# Altium footprint library 研发中心PCB库文件.PcbLib: 333 footprints (part 13 of 21)
Each footprint in its own frame and in the unit in brackets; x right, y up, seen from the top. Pads: shape width x height; smd on the part's side, far side on the other; paste and mask are expansions set on the pad; w line width, h text height; cw(c..) or ccw(c..) is an arc to the next point about the centre after c.
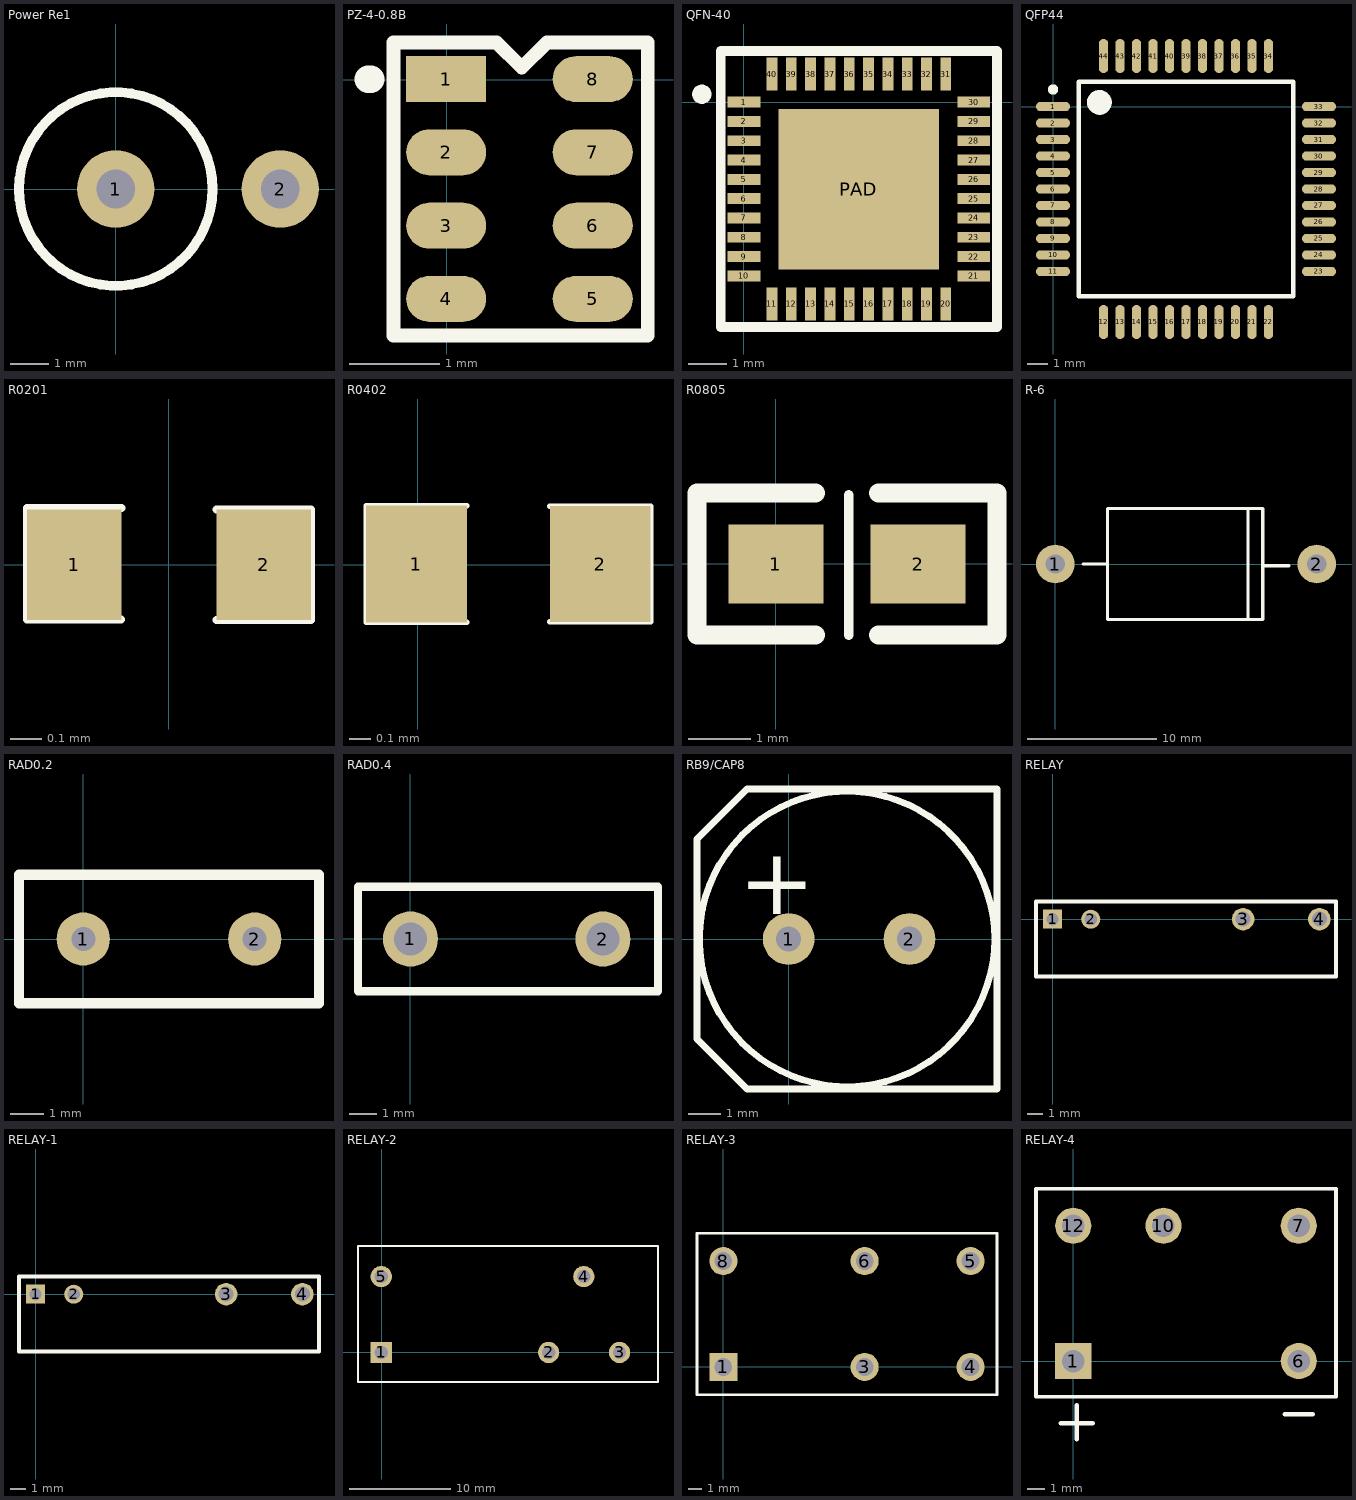
[diagram p12: the footprints below, top view; thin cyan lines are the x and y axes]

## Power Re1 [mil]
pads (2):
  round 80 hole 40: 1(0,0) 2(170,0)
Top Overlay:
  circle w10: c0,0 r100

## PZ-4-0.8B [mil]
pads (8):
  rect 35x20 smd: 1(-0.18,0.33)
  oval 35x20 smd: 2(-0.18,-31.67) 3(-0.18,-63.67) 4(-0.18,-95.67) 5(63.82,-95.67) 6(63.82,-63.67) 7(63.82,-31.67) 8(63.82,0.33)
Top Overlay:
  lines w6: -23.18,-111.67 87.82,-111.67 87.82,16.33 43.82,16.33 32.82,5.33 21.82,16.33 -23.18,16.33 -23.18,-111.67
  lines w12: -34.18,0.33 -33.18,0.33

## QFN-40 [mm]
pads (41):
  rect 0.85x0.28 smd: 1(0,0) 2(0,-0.5) 3(0,-1) 4(0,-1.5) 5(0,-2) 6(0,-2.5) 7(0,-3) 8(0,-3.5) 9(0,-4) 10(0,-4.5) 21(5.95,-4.5) 22(5.95,-4) 23(5.95,-3.5) 24(5.95,-3) 25(5.95,-2.5) 26(5.95,-2) 27(5.95,-1.5) 28(5.95,-1) 29(5.95,-0.5) 30(5.95,0)
  rect 0.28x0.85 smd: 11(0.725,-5.225) 12(1.225,-5.225) 13(1.725,-5.225) 14(2.225,-5.225) 15(2.725,-5.225) 16(3.225,-5.225) 17(3.725,-5.225) 18(4.225,-5.225) 19(4.725,-5.225) 20(5.225,-5.225) 31(5.225,0.725) 32(4.725,0.725) 33(4.225,0.725) 34(3.725,0.725) 35(3.225,0.725) 36(2.725,0.725) 37(2.225,0.725) 38(1.725,0.725) 39(1.225,0.725) 40(0.725,0.725)
  rect 4.15x4.15 smd: PAD(2.975,-2.255)
Top Overlay:
  circle w0.25: c-1.09,0.203 r0.125
  lines w0.254: -0.6,-5.825 -0.6,1.325 6.55,1.325 6.55,-5.825 -0.6,-5.825

## QFP44 [mm]
pads (44):
  oval 1.65x0.45 smd: 1(0,0) 2(0,-0.8) 3(0,-1.6) 4(0,-2.4) 5(0,-3.2) 6(0,-4) 7(0,-4.8) 8(0,-5.6) 9(0,-6.4) 10(0,-7.2) 11(0,-8) 23(12.9,-8) 24(12.9,-7.2) 25(12.9,-6.4) 26(12.9,-5.6) 27(12.9,-4.8) 28(12.9,-4) 29(12.9,-3.2) 30(12.9,-2.4) 31(12.9,-1.6) 32(12.9,-0.8) 33(12.9,0)
  oval 0.45x1.65 smd: 12(2.45,-10.45) 13(3.25,-10.45) 14(4.05,-10.45) 15(4.85,-10.45) 16(5.65,-10.45) 17(6.45,-10.45) 18(7.25,-10.45) 19(8.05,-10.45) 20(8.85,-10.45) 21(9.65,-10.45) 22(10.45,-10.45) 34(10.45,2.45) 35(9.65,2.45) 36(8.85,2.45) 37(8.05,2.45) 38(7.25,2.45) 39(6.45,2.45) 40(5.65,2.45) 41(4.85,2.45) 42(4.05,2.45) 43(3.25,2.45) 44(2.45,2.45)
Top Overlay:
  circle w0.6: c2.25,0.2 r0.3
  circle w0.25: c0,0.825 r0.125
  lines w0.2: 1.25,-9.2 11.65,-9.2 11.65,1.2 1.25,1.2 1.25,-9.2

## R0201 [mm]
pads (2):
  rect 0.3x0.35 smd: 1(-0.3,0) 2(0.3,0)
Top Overlay:
  lines w0.025: -0.152,-0.174 -0.45,-0.174 -0.45,0.179 -0.15,0.179 ; 0.15,-0.175 0.45,-0.175 0.45,0.175 0.15,0.175

## R0402 [mm]
pads (2):
  rect 0.48x0.555 smd: 1(-0.007,0.003)
  rect 0.48x0.55 smd: 2(0.868,0.003)
Top Overlay:
  lines w0.025: 0.232,-0.274 -0.247,-0.274 -0.247,0.281 0.232,0.281 ; 0.628,-0.272 1.108,-0.272 1.108,0.278 0.628,0.278

## R0805 [mil]
height 53.15
pads (2):
  rect 60x50 smd: 1(0.16,-0.14) 2(90.16,-0.14)
Top Overlay:
  lines w6: 46.16,-45.14 46.16,43.86
  lines w12: 25.16,-45.14 -49.84,-45.14 -49.84,44.86 25.16,44.86 ; 65.16,-45.14 140.16,-45.14 140.16,44.86 65.16,44.86

## R-6 [mm]
pads (2):
  round 3 hole 1.5: 1(0,0) 2(20.32,0)
Top Overlay:
  lines w0.254: 2.159,0 4.064,0 ; 14.986,-4.318 14.986,4.318 ; 16.256,-0.127 18.161,-0.127 ; 4.064,-4.318 16.129,-4.318 16.129,4.318 4.064,4.318 4.064,-0.381 4.064,-4.318

## RAD0.2 [mil]
pads (2):
  round 62 hole 28: 1(0,0) 2(200,0)
Top Overlay:
  lines w12: -75,-75 275,-75 275,75 -75,75 -75,-75

## RAD0.4 [mm]
pads (2):
  round 2 hole 1.2: 1(0,0) 2(6.992,0)
Top Overlay:
  lines w0.305: -1.905,-1.905 -1.905,1.905 8.992,1.905 8.992,-1.905 -1.905,-1.905

## RB9/CAP8 [mil]
pads (2):
  round 62 hole 30: 1(0,0) 2(145,0)
Top Overlay:
  circle w8: c70,0 r177.17
  lines w8: -110,-120 -110,120 -50,180 250,180 250,-180 -50,-180 -110,-120
  text "+" at -60,30 h80

## RELAY [mm]
pads (4):
  rect 1.27x1.27 hole 0.813: 1(0,0)
  round 1.27 hole 0.813: 2(2.54,0)
  round 1.5 hole 1: 3(12.7,0) 4(17.78,0)
Top Overlay:
  lines w0.254: -1.11,-3.82 18.89,-3.82 18.89,1.18 -1.11,1.18 -1.11,-3.82

## RELAY-1 [mm]
pads (4):
  rect 1.27x1.27 hole 0.813: 1(0,0)
  round 1.27 hole 0.813: 2(2.54,0)
  round 1.5 hole 1: 3(12.7,0) 4(17.78,0)
Top Overlay:
  lines w0.254: -1.11,-3.82 -1.11,1.18 18.89,1.18 18.89,-3.82 -1.11,-3.82

## RELAY-2 [mm]
pads (5):
  rect 2.1x2.1 hole 1.32: 1(-0.027,0)
  round 2.1 hole 1.32: 2(16.5,0) 3(23.5,0) 4(19.973,7.5)
  round 2.1 hole 1.323: 5(-0.027,7.5)
Top Overlay:
  lines w0.2: -2.327,-2.9 -2.327,10.5 27.3,10.5 27.3,-2.9 -2.327,-2.9

## RELAY-3 [mil]
pads (6):
  rect 80x80 hole 50: 1(0.79,0)
  round 80 hole 50: 3(400.79,0) 4(700.79,0) 5(700.79,300) 6(400.79,300) 8(0.79,300)
Top Overlay:
  lines w7.87: -74.02,-78.74 -74.02,378.74 775.79,378.74 775.79,-78.74 -74.02,-78.74

## RELAY-4 [mil]
pads (5):
  rect 80x80 hole 50: 1(0,0)
  round 80 hole 50: 6(500,0) 7(500,300) 10(200,300) 12(0,300)
Top Overlay:
  lines w7.87: -82.68,-78.74 -82.68,381.89 582.68,381.89 582.68,-78.74 -82.68,-78.74
  lines w10: -27.56,-137.8 43.31,-137.8 ; 7.87,-173.23 7.87,-98.43 ; 468.5,-118.11 531.5,-118.11